# Altium footprint library C_0201.PcbLib: 1 footprints
Each footprint in its own frame and in the unit in brackets; x right, y up, seen from the top. Pads: shape width x height; smd on the part's side, far side on the other; paste and mask are expansions set on the pad; w line width, h text height; cw(c..) or ccw(c..) is an arc to the next point about the centre after c.
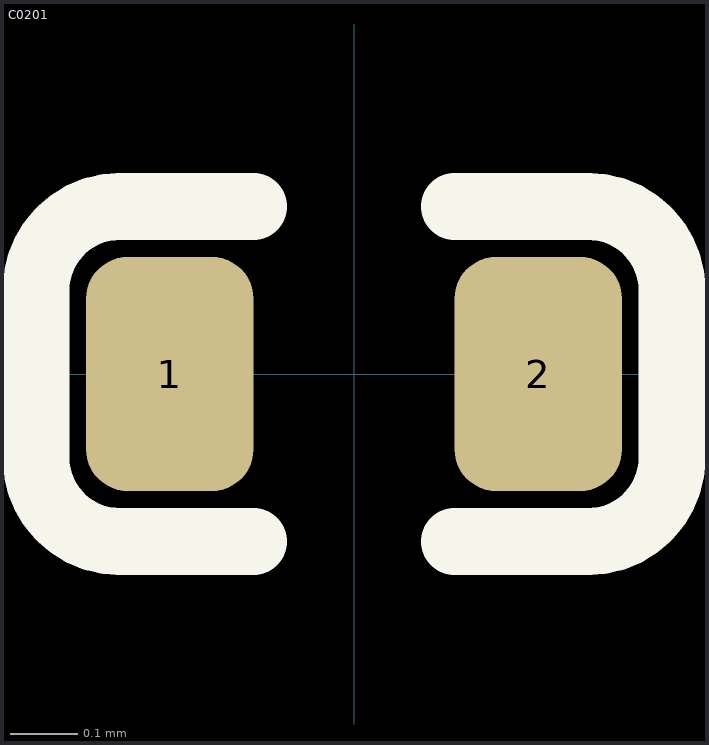
[diagram p0: the footprint, top view; thin cyan lines are the x and y axes]

## C0201 [mm]
pads (2):
  rrect50% 0.25x0.35 smd mask+0.05: 1(-0.275,0) 2(0.275,0)
Top Overlay:
  lines w0.1: -0.15,-0.25 -0.35,-0.25 cw(c-0.35,-0.125) -0.475,-0.125 -0.475,0.125 cw(c-0.35,0.125) -0.35,0.25 -0.15,0.25 ; 0.15,-0.25 0.35,-0.25 ccw(c0.35,-0.125) 0.475,-0.125 0.475,0.125 ccw(c0.35,0.125) 0.35,0.25 0.15,0.25
3D body "C0201.STEP": height 0.34, standoff 0.01, extent -0.3,-0.15 0.3,0.15